# EAGLE library part ESP32-WROOM32 (library ESP32)
ESP32-WROOM32
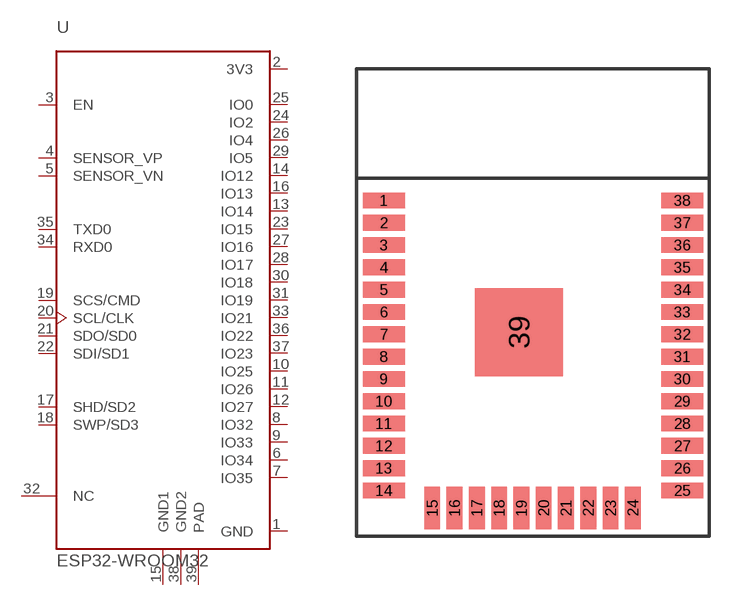
[diagram p0: symbol with the pads of ESP32-WROOM32; footprint ESP32-WROOM32]

Designator prefix -

## ESP32-WROOM32  [ESP32-WROOM32]
1  GND  pwr
2  3V3  pwr
3  EN  in
4  SENSOR_VP  in
5  SENSOR_VN  in
6  IO34
7  IO35
8  IO32
9  IO33
10  IO25
11  IO26
12  IO27
13  IO14
14  IO12
15  GND1
16  IO13
17  SHD/SD2
18  SWP/SD3
19  SCS/CMD
20  SCL/CLK
21  SDO/SD0
22  SDI/SD1
23  IO15
24  IO2
25  IO0
26  IO4
27  IO16
28  IO17
29  IO5
30  IO18
31  IO19
32  NC
33  IO21
34  RXD0
35  TXD0
36  IO22
37  IO23
38  GND2
39  PAD

## Footprint ESP32-WROOM32 (pad centres in mm)
smd 2.4 x 0.9: 1 0,16.51; 2 0,15.24; 3 0,13.97; 4 0,12.7; 5 0,11.43; 6 0,10.16; 7 0,8.89; 8 0,7.62; 9 0,6.35; 10 0,5.08; 11 0,3.81; 12 0,2.54; 13 0,1.27; 14 0,0; 25 17,0; 26 17,1.27; 27 17,2.54; 28 17,3.81; 29 17,5.08; 30 17,6.35; 31 17,7.62; 32 17,8.89; 33 17,10.16; 34 17,11.43; 35 17,12.7; 36 17,13.97; 37 17,15.24; 38 17,16.51
smd 0.9 x 2.4: 15 2.758,-1; 16 4.028,-1; 17 5.298,-1; 18 6.568,-1; 19 7.838,-1; 20 9.108,-1; 21 10.378,-1; 22 11.648,-1; 23 12.918,-1; 24 14.188,-1
smd 5 x 5: 39 7.7,9.01